# Altium footprint library Mouse Bites.PcbLib: 1 footprints
Each footprint in its own frame and in the unit in brackets; x right, y up, seen from the top. Pads: shape width x height; smd on the part's side, far side on the other; paste and mask are expansions set on the pad; w line width, h text height; cw(c..) or ccw(c..) is an arc to the next point about the centre after c.
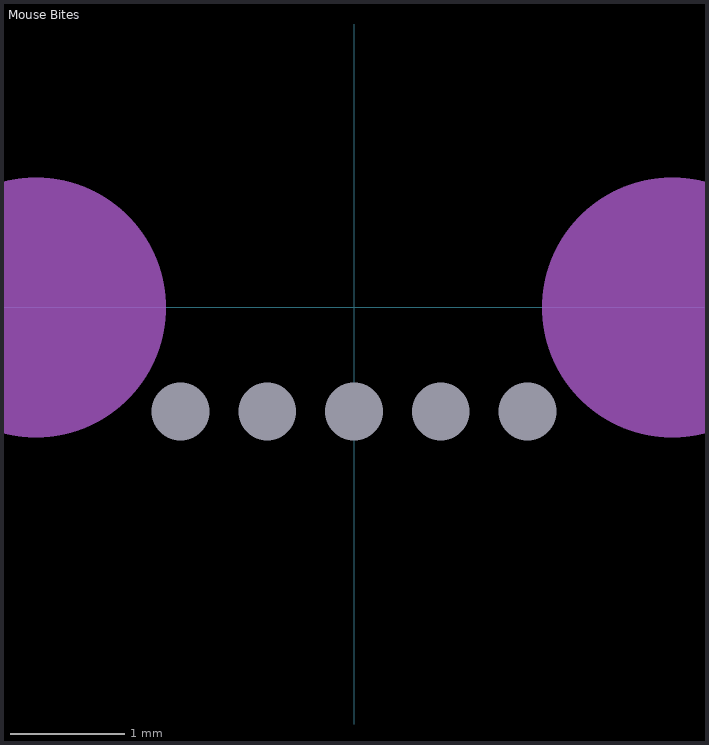
[diagram p0: the footprint, top view; thin cyan lines are the x and y axes]

## Mouse Bites [mil] "Mouse Bites 100mil groove, 20mil holes, 30 mil separation"
pads (5):
  round 0 hole 20 unplated mask+0: 1(-60,-36) 1(-30,-36) 1(0,-36) 1(30,-36) 1(60,-36)
Mechanical 13:
  circle w90: c-110,0 r0
  circle w90: c110,0 r0